# Altium footprint library GhaniLibrary.PcbLib: 19 footprints (part 1 of 2)
Each footprint in its own frame and in the unit in brackets; x right, y up, seen from the top. Pads: shape width x height; smd on the part's side, far side on the other; paste and mask are expansions set on the pad; w line width, h text height; cw(c..) or ccw(c..) is an arc to the next point about the centre after c.
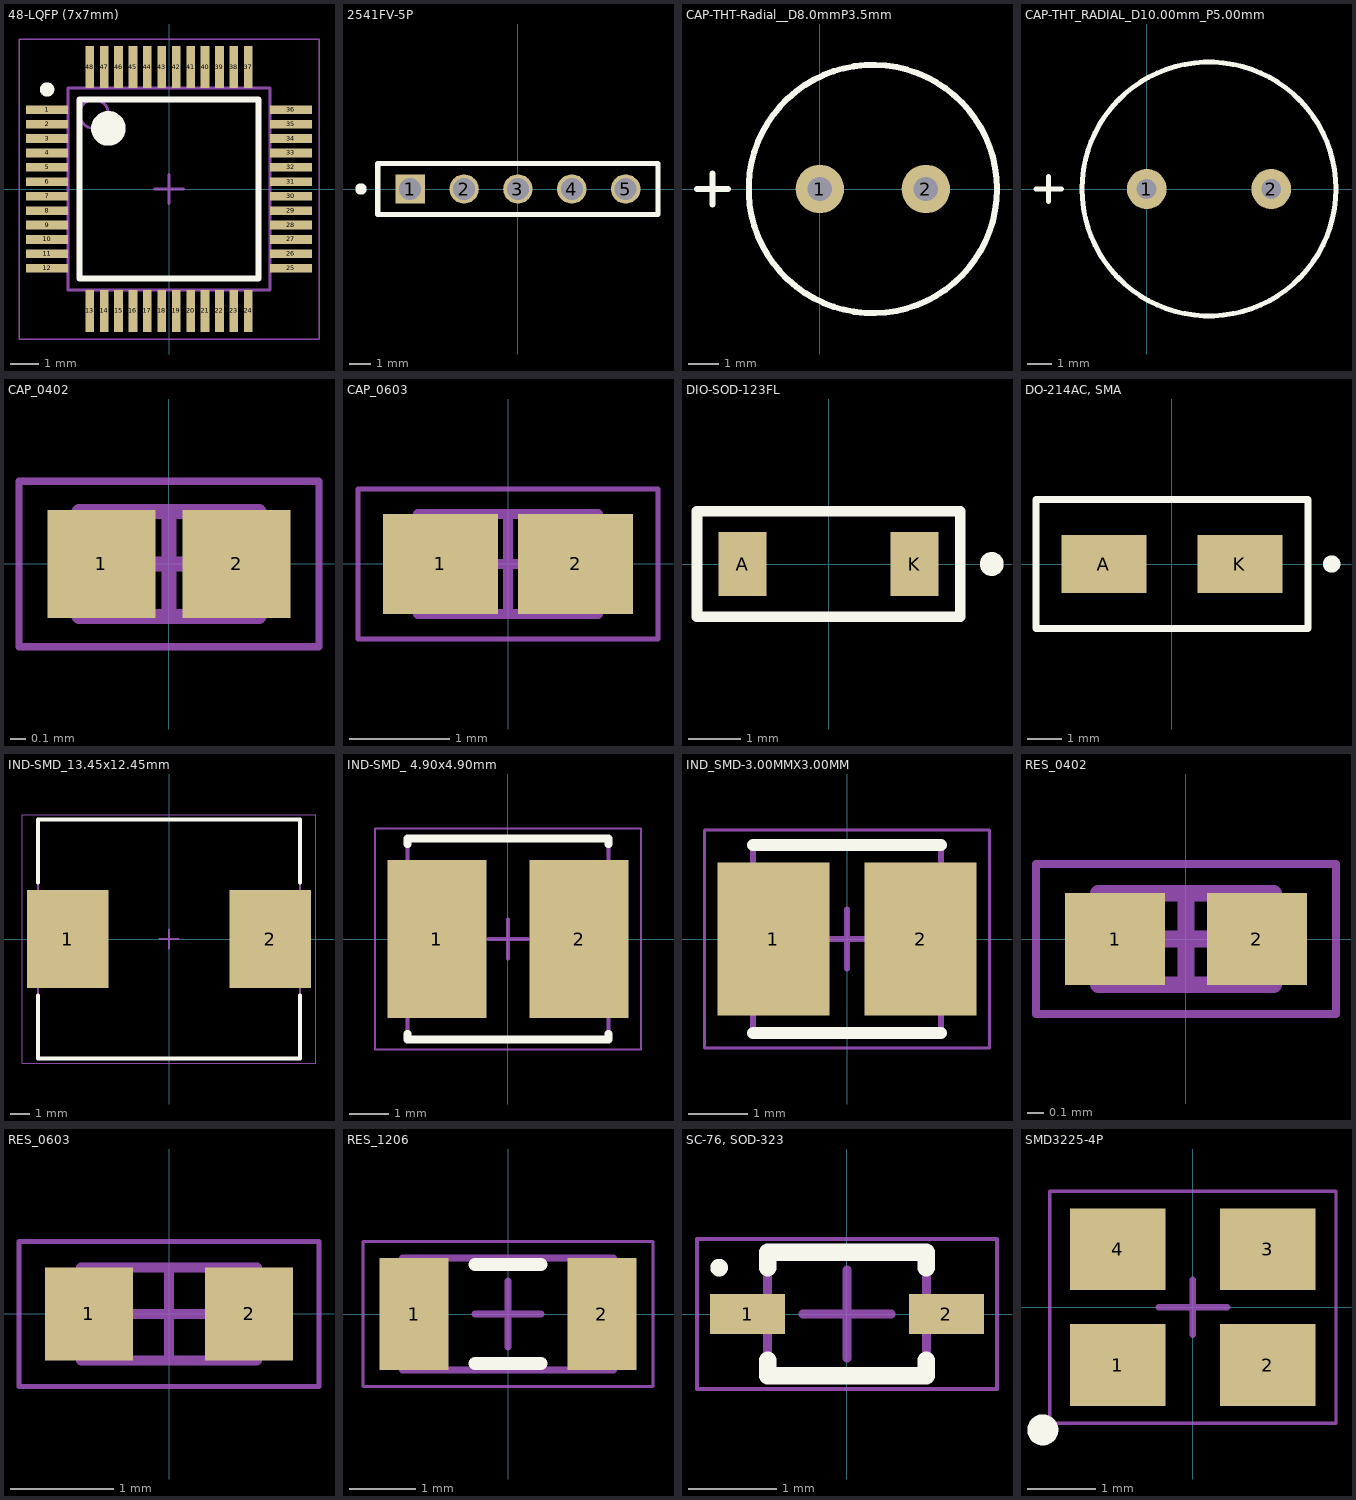
[diagram p0: the footprints below, top view; thin cyan lines are the x and y axes]

## 48-LQFP (7x7mm) [mm] "LQFP, 48-Leads, Body 7.00x7.00mm, Pitch 0.50mm, IPC Medium Density"
height 1.6
pads (48):
  rect 1.45x0.3 smd: 1(-4.225,2.75) 2(-4.225,2.25) 3(-4.225,1.75) 4(-4.225,1.25) 5(-4.225,0.75) 6(-4.225,0.25) 7(-4.225,-0.25) 8(-4.225,-0.75) 9(-4.225,-1.25) 10(-4.225,-1.75) 11(-4.225,-2.25) 12(-4.225,-2.75) 25(4.225,-2.75) 26(4.225,-2.25) 27(4.225,-1.75) 28(4.225,-1.25) 29(4.225,-0.75) 30(4.225,-0.25) 31(4.225,0.25) 32(4.225,0.75) 33(4.225,1.25) 34(4.225,1.75) 35(4.225,2.25) 36(4.225,2.75)
  rect 0.3x1.45 smd: 13(-2.75,-4.225) 14(-2.25,-4.225) 15(-1.75,-4.225) 16(-1.25,-4.225) 17(-0.75,-4.225) 18(-0.25,-4.225) 19(0.25,-4.225) 20(0.75,-4.225) 21(1.25,-4.225) 22(1.75,-4.225) 23(2.25,-4.225) 24(2.75,-4.225) 37(2.75,4.225) 38(2.25,4.225) 39(1.75,4.225) 40(1.25,4.225) 41(0.75,4.225) 42(0.25,4.225) 43(-0.25,4.225) 44(-0.75,4.225) 45(-1.25,4.225) 46(-1.75,4.225) 47(-2.25,4.225) 48(-2.75,4.225)
Top Overlay:
  circle w0.25: c-4.225,3.45 r0.125
  circle w0.6: c-2.1,2.1 r0.3
  lines w0.2: -3.1,-3.1 -3.1,3.1 3.1,3.1 3.1,-3.1 -3.1,-3.1
Mechanical 13:
  circle w0.1: c-2.6,2.6 r0.5
  lines w0.1: -3.5,-3.5 -3.5,3.5 3.5,3.5 3.5,-3.5 -3.5,-3.5
Mechanical 15:
  lines w0.05: -5.2,-5.2 -5.2,5.2 5.2,5.2 5.2,-5.2 -5.2,-5.2
  lines w0.1: -0.5,0 0.5,0 ; 0,-0.5 0,0.5
3D body "48-LQFP (7x7mm).step": height 1.6, standoff 0, extent -4.5,-4.5 4.5,4.5

## 2541FV-5P [mm]
pads (5):
  rect 1.39x1.39 hole 1.04: 1(-5.08,0)
  round 1.39 hole 1.04: 2(-2.54,0) 3(0,0) 4(2.54,0) 5(5.08,0)
Top Overlay:
  circle w0.254: c-7.4,0 r0.141
  lines w0.254: -6.605,-1.2 6.605,-1.2 6.605,1.2 3.302,1.2 -3.303,1.2 -6.605,1.2 -6.605,-1.2
3D body "ESW-105-59-S-S.stp": height 15.89, standoff -7.35, extent -6.603,-1.27 6.605,1.27

## CAP-THT-Radial__D8.0mmP3.5mm [mm]
pads (2):
  round 1.6 hole 0.8: 1(0,0) 2(3.5,0)
Top Overlay:
  circle w0.2: c1.75,0 r4.1
  lines w0.2: -4.056,0 -3.04,0 ; -3.548,-0.508 -3.548,0.508
3D body "EEU-FR1V221.STEP": height 10.56, standoff -17.94, extent -2.25,-3.992 5.75,3.992

## CAP-THT_RADIAL_D10.00mm_P5.00mm [mm]
pads (2):
  round 1.6 hole 0.8: 1(0,0) 2(5,0)
Top Overlay:
  circle w0.2: c2.5,0 r5.1
  lines w0.2: -4.445,0 -3.429,0 ; -3.937,-0.508 -3.937,0.508
3D body "EEUFR1A102_D10.STEP": height 16.01, standoff -16.99, extent -2.485,-4.98 7.5,5

## CAP_0402 [mm] "Chip Capacitor, 2-Leads, Body 1.00x0.50mm, IPC Medium Density"
height 0.7
pads (2):
  rect 0.72x0.72 smd: 1(-0.45,0) 2(0.45,0)
Mechanical 13:
  lines w0.1: -0.6,-0.35 -0.6,0.35 0.6,0.35 0.6,-0.35 -0.6,-0.35
Mechanical 15:
  lines w0.05: -1,-0.55 -1,0.55 1,0.55 1,-0.55 -1,-0.55
  lines w0.1: -0.35,0 0.35,0 ; 0,-0.35 0,0.35
3D body "CAP_0402.step": height 0.7, standoff 0, extent -0.6,-0.35 0.6,0.35

## CAP_0603 [mm] "Chip Capacitor, 2-Leads, Body 1.60x0.80mm, IPC Medium Density"
height 1
pads (2):
  rect 1.15x1 smd: 1(-0.675,0) 2(0.675,0)
Mechanical 13:
  lines w0.1: -0.9,-0.5 0.9,-0.5 0.9,0.5 -0.9,0.5 -0.9,-0.5
Mechanical 15:
  lines w0.05: -1.5,-0.75 1.5,-0.75 1.5,0.75 -1.5,0.75 -1.5,-0.75
  lines w0.1: -0.5,0 0.5,0 ; 0,-0.5 0,0.5
3D body "CAP_0603.step": height 1, standoff 0, extent -0.9,-0.5 0.9,0.5

## DIO-SOD-123FL [mm]
pads (2):
  rect 0.91x1.22 smd: A(-1.635,0) K(1.635,0)
Top Overlay:
  circle w0.254: c3.1,0 r0.1
  lines w0.2: -2.5,-1 2.5,-1 2.5,1 -2.5,1 -2.5,0 -2.5,-1
3D body "SM5817PL-TP.STEP": height 1.21, standoff 0.01, extent -1.847,-0.825 1.847,0.825

## DO-214AC, SMA [mm]
pads (2):
  rect 2.5x1.7 smd: A(-2,0) K(2,0)
Top Overlay:
  circle w0.254: c4.699,0 r0.127
  lines w0.2: -4,-1.9 4,-1.9 4,1.9 -4,1.9 -4,0 -4,-1.9
3D body "B340AE-13.STEP": height 2.4, standoff 0, extent -2.598,-1.302 2.598,1.302

## IND-SMD_13.45x12.45mm [mm] "Precision Wire Wound Inductor, 2-Leads, Body 13.45x12.45mm, IPC Medium Density"
height 6
pads (2):
  rect 4.3x5.15 smd: 1(-5.325,0) 2(5.325,0)
Top Overlay:
  lines w0.2: -6.9,-2.975 -6.9,-6.3 6.9,-6.3 6.9,-2.975 ; -6.9,2.975 -6.9,6.3 6.9,6.3 6.9,2.975
Mechanical 13:
  lines w0.1: -6.9,-6.3 6.9,-6.3 6.9,6.3 -6.9,6.3 -6.9,-6.3
Mechanical 15:
  lines w0.05: -7.725,-6.55 7.725,-6.55 7.725,6.55 -7.725,6.55 -7.725,-6.55
  lines w0.1: -0.5,0 0.5,0 ; 0,-0.5 0,0.5
3D body "IND-13.45x12.45mm.step": height 6.1, standoff 0, extent -6.825,-6.225 6.825,6.225

## IND-SMD_ 4.90x4.90mm [mm] "Precision Wire Wound Inductor, 2-Leads, Body 4.90x4.90mm, IPC Medium Density"
height 2
pads (2):
  rect 2.5x4 smd: 1(-1.8,0) 2(1.8,0)
Top Overlay:
  lines w0.2: -2.55,-2.4 -2.55,-2.55 2.55,-2.55 2.55,-2.4 ; -2.55,2.4 -2.55,2.55 2.55,2.55 2.55,2.4
Mechanical 13:
  lines w0.1: -2.55,-2.55 -2.55,2.55 2.55,2.55 2.55,-2.55 -2.55,-2.55
Mechanical 15:
  lines w0.05: -3.375,-2.8 -3.375,2.8 3.375,2.8 3.375,-2.8 -3.375,-2.8
  lines w0.1: -0.5,0 0.5,0 ; 0,-0.5 0,0.5
3D body "IND-SMD_ 4.90x4.90mm.step": height 2.1, standoff 0, extent -2.55,-2.45 2.55,2.45

## IND_SMD-3.00MMX3.00MM [mm] "Precision Wire Wound Inductor, 2-Leads, Body 3.00x3.00mm, IPC Medium Density"
height 1.2
pads (2):
  rect 1.9x2.6 smd: 1(-1.25,0) 2(1.25,0)
Top Overlay:
  lines w0.2: -1.6,-1.6 1.6,-1.6 ; -1.6,1.6 1.6,1.6
Mechanical 13:
  lines w0.1: -1.6,-1.6 1.6,-1.6 1.6,1.6 -1.6,1.6 -1.6,-1.6
Mechanical 15:
  lines w0.05: -2.425,-1.85 2.425,-1.85 2.425,1.85 -2.425,1.85 -2.425,-1.85
  lines w0.1: -0.5,0 0.5,0 ; 0,-0.5 0,0.5
3D body "IND_SMD-3.00MMX3.00MM.step": height 1.3, standoff 0, extent -1.6,-1.5 1.6,1.5

## RES_0402 [mm] "Chip Resistor, 2-Leads, Body 1.00x0.50mm, IPC Medium Density"
height 0.4
pads (2):
  rect 0.6x0.55 smd: 1(-0.425,0) 2(0.425,0)
Mechanical 13:
  lines w0.1: -0.525,-0.275 0.525,-0.275 0.525,0.275 -0.525,0.275 -0.525,-0.275
Mechanical 15:
  lines w0.05: -0.9,-0.45 0.9,-0.45 0.9,0.45 -0.9,0.45 -0.9,-0.45
  lines w0.1: -0.275,0 0.275,0 ; 0,-0.275 0,0.275
3D body "RES_0402.step": height 0.4, standoff 0, extent -0.525,-0.275 0.525,0.275

## RES_0603 [mm] "Chip Resistor, 2-Leads, Body 1.60x0.80mm, IPC Medium Density"
height 0.55
pads (2):
  rect 0.85x0.9 smd: 1(-0.775,0) 2(0.775,0)
Mechanical 13:
  lines w0.1: -0.85,-0.45 0.85,-0.45 0.85,0.45 -0.85,0.45 -0.85,-0.45
Mechanical 15:
  lines w0.05: -1.45,-0.7 1.45,-0.7 1.45,0.7 -1.45,0.7 -1.45,-0.7
  lines w0.1: -0.45,0 0.45,0 ; 0,-0.45 0,0.45
3D body "RES_0603.step": height 0.55, standoff 0, extent -0.85,-0.45 0.85,0.45

## RES_1206 [mm] "Chip Resistor, 2-Leads, Body 3.10x1.60mm, IPC Medium Density"
height 0.65
pads (2):
  rect 1.05x1.7 smd: 1(-1.425,0) 2(1.425,0)
Top Overlay:
  lines w0.2: -0.5,-0.75 0.5,-0.75 ; -0.5,0.75 0.5,0.75
Mechanical 13:
  lines w0.1: -1.6,-0.85 -1.6,0.85 1.6,0.85 1.6,-0.85 -1.6,-0.85
Mechanical 15:
  lines w0.05: -2.2,-1.1 -2.2,1.1 2.2,1.1 2.2,-1.1 -2.2,-1.1
  lines w0.1: -0.5,0 0.5,0 ; 0,-0.5 0,0.5
3D body "RES_1206.step": height 0.65, standoff 0, extent -1.6,-0.85 1.6,0.85

## SC-76, SOD-323 [mm] "SODFL, 2-Leads, Body 1.25x2.50mm, IPC Medium Density"
height 1.1
pads (2):
  rect 0.85x0.45 smd: 1(-1.125,0) 2(1.125,0)
Top Overlay:
  circle w0.1: c-1.45,0.525 r0.05
  lines w0.2: -0.9,-0.525 -0.9,-0.7 0.9,-0.7 0.9,-0.525 ; -0.9,0.525 -0.9,0.7 0.9,0.7 0.9,0.525
Mechanical 13:
  lines w0.1: -0.9,-0.675 -0.9,0.675 0.9,0.675 0.9,-0.675 -0.9,-0.675
Mechanical 15:
  lines w0.05: -1.7,-0.85 -1.7,0.85 1.7,0.85 1.7,-0.85 -1.7,-0.85
  lines w0.1: -0.5,0 0.5,0 ; 0,-0.5 0,0.5
3D body "SC-76, SOD-323.step": height 1.1, standoff 0, extent -1.25,-0.675 1.25,0.675

## SMD3225-4P [mm]
pads (4):
  rect 1.4x1.2 smd: 1(-1.1,-0.85) 2(1.1,-0.85) 3(1.1,0.85) 4(-1.1,0.85)
Top Overlay:
  circle w0.254: c-2.2,-1.8 r0.1
Mechanical 15:
  lines w0.05: -2.1,-1.7 2.1,-1.7 2.1,1.7 -2.1,1.7 -2.1,-1.7
  lines w0.1: -0.5,0 0.5,0 ; 0,-0.4 0,0.4
3D body "Crystal_OSC_3.2mmX2.5mm.STEP": height 0.81, standoff 0.01, extent -1.6,-1.25 1.6,1.25